# Altium schematic symbol library Resistors.SchLib: 13 symbols
Pins are listed as number, name and electrical type; pins without a type are passive.

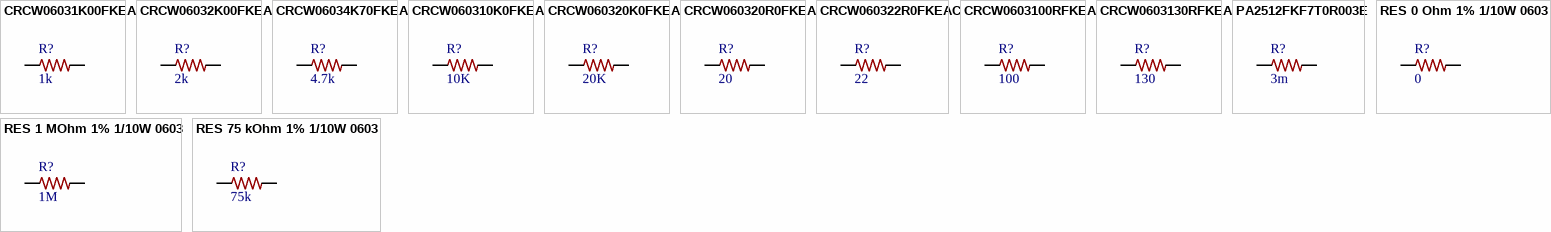
[diagram p0: symbols CRCW06031K00FKEA to RES 75 kOhm 1% 1/10W 0603]

## CRCW06031K00FKEA
designator R?  value 1k  (hidden comment: CRCW06031K00FKEA)
RES SMD 1K OHM 1% 1/10W 0603
footprint CRCW06031K00FKEA
pins: 1, 2

## CRCW06032K00FKEA
designator R?  value 2k  (hidden comment: CRCW06032K00FKEA)
RES SMD 2K OHM 1% 1/10W 0603
footprint CRCW06031K00FKEA
pins: 1, 2

## CRCW06034K70FKEA
designator R?  value 4.7k  (hidden comment: CRCW06034K70FKEA)
RES SMD 4.7K OHM 1% 1/10W 0603
footprint CRCW06034K70FKEA
pins: 1, 2

## CRCW060310K0FKEA
designator R?  value 10K  (hidden comment: CRCW060310K0FKEA)
RES SMD 10K OHM 1% 1/10W 0603
footprint CRCW06031K00FKEA
pins: 1, 2

## CRCW060320K0FKEA
designator R?  value 20K  (hidden comment: CRCW060320K0FKEA)
RES SMD 20K OHM 1% 1/10W 0603
footprint CRCW06031K00FKEA
pins: 1, 2

## CRCW060320R0FKEA
designator R?  value 20  (hidden comment: CRCW060320R0FKEA)
RES SMD 20 OHM 1% 1/10W 0603
footprint CRCW060320R0FKEA
pins: 1, 2

## CRCW060322R0FKEAC
designator R?, comment value 22  (hidden comment: ‎CRCW060322R0FKEAC)
RES SMD 22 OHM 1% 1/10W 0603
footprint CRCW060322R0FKEAC
pins: 1, 2

## CRCW0603100RFKEA
designator R?  value 100  (hidden comment: CRCW0603100RFKEA)
RES SMD 100 OHM 1% 1/10W 0603
footprint CRCW0603100RFKEA
pins: 1, 2

## CRCW0603130RFKEA
designator R?  value 130  (hidden comment: CRCW0603130RFKEA)
RES SMD 130 OHM 1% 1/10W 0603
footprint CRCW0603130RFKEA
pins: 1, 2

## PA2512FKF7T0R003E
designator R?  value 3m  (hidden comment: PA2512FKF7T0R003E)
3 mOhms ±1% 3W Chip Resistor 2512 (6432 Metric) Automotive AEC-Q200, Current Sense
pins: 1, 2

## RES 0 Ohm 1% 1/10W 0603
designator R?  value 0
RES 0 Ohm 1% 1/10W 0603
pins: 1, 2

## RES 1 MOhm 1% 1/10W 0603
designator R?  value 1M
RES 1 MOhm 1% 1/10W 0603
pins: 1, 2

## RES 75 kOhm 1% 1/10W 0603
designator R?  value 75k
RES 75 kOhm 1% 1/10W 0603
pins: 1, 2